# Altium schematic symbol library AD8538AUJZ-REEL7.Schlib: 1 symbol
Pins are listed as number, name and electrical type; pins without a type are passive.

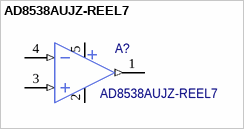
[diagram p0: symbol AD8538AUJZ-REEL7]

## AD8538AUJZ-REEL7
designator A?
pins: 1 OUT2 (out), 2 GND (power), 3 IN+2 (in), 4 IN-2 (in), 5 VDD (power)